# Altium footprint library FH33J-16S-0.5SH(10).PcbLib: 1 footprints
Each footprint in its own frame and in the unit in brackets; x right, y up, seen from the top. Pads: shape width x height; smd on the part's side, far side on the other; paste and mask are expansions set on the pad; w line width, h text height; cw(c..) or ccw(c..) is an arc to the next point about the centre after c.
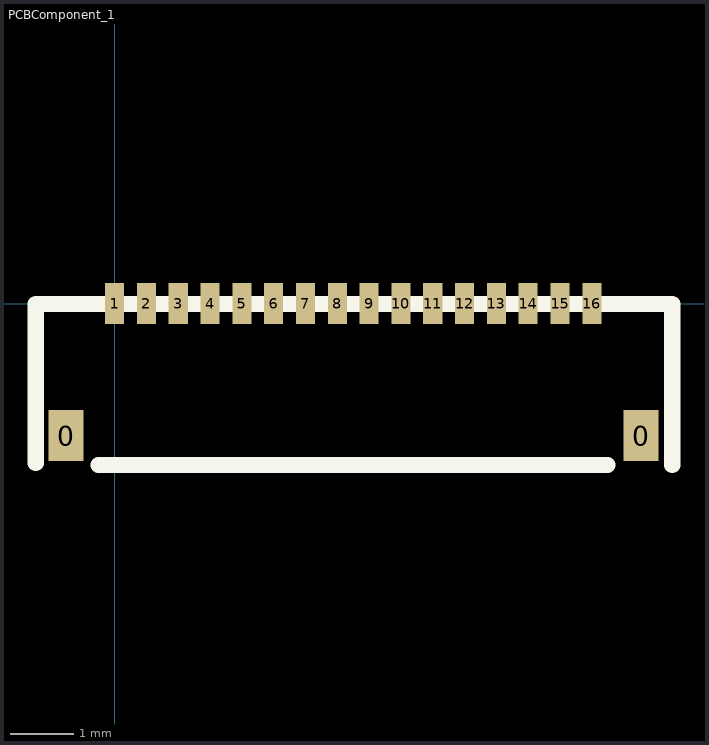
[diagram p0: the footprint, top view; thin cyan lines are the x and y axes]

## PCBComponent_1 [mm]
pads (18):
  rect 0.55x0.8 smd mask+0.05: 0(-0.763,-2.075) 0(8.275,-2.075)
  rect 0.3x0.65 smd mask+0.05: 1(0,0) 2(0.5,0) 3(1,0) 4(1.5,0) 5(2,0) 6(2.5,0) 7(3,0) 8(3.5,0) 9(4,0) 10(4.5,0) 11(5,0) 12(5.5,0) 13(6,0) 14(6.5,0) 15(7,0) 16(7.5,0)
Top Overlay:
  lines w0.254: -1.238,-2.508 -1.238,-0.008 -0.988,-0.008 5.512,-0.008 8.763,-0.008 8.763,-2.54 ; -0.254,-2.54 7.747,-2.54